# Altium footprint library Buzzer_Beeper.PcbLib: 22 footprints (part 2 of 2)
Each footprint in its own frame and in the unit in brackets; x right, y up, seen from the top. Pads: shape width x height; smd on the part's side, far side on the other; paste and mask are expansions set on the pad; w line width, h text height; cw(c..) or ccw(c..) is an arc to the next point about the centre after c.
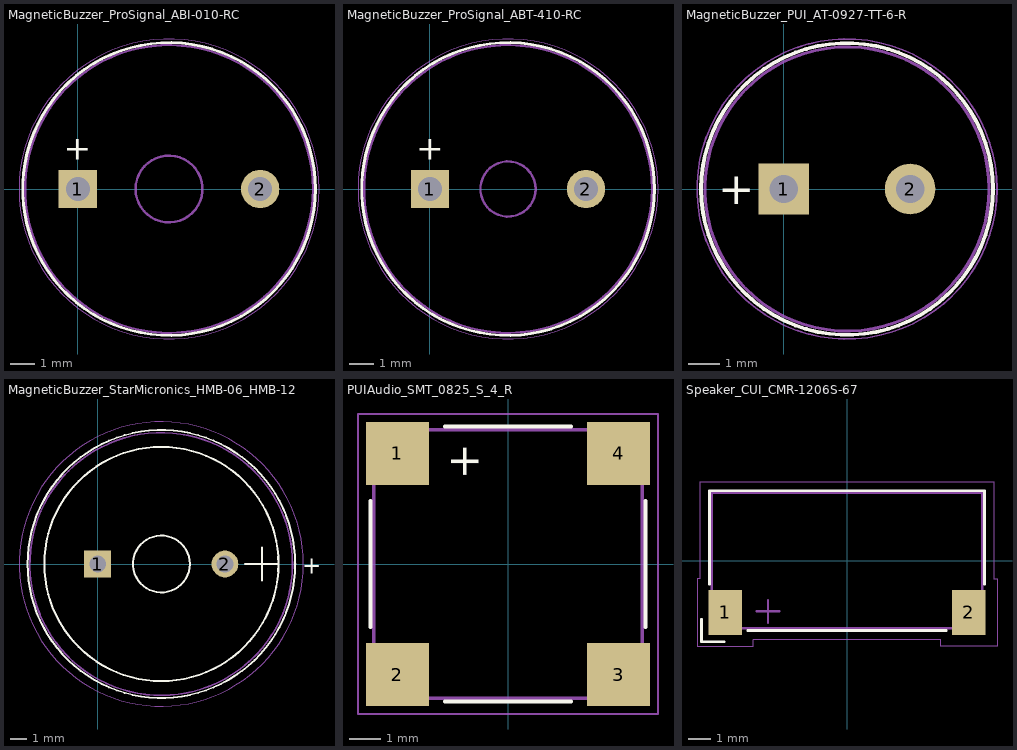
[diagram p1: the footprints below, top view; thin cyan lines are the x and y axes]

## MagneticBuzzer_ProSignal_ABI-010-RC [mm]
pads (2):
  rect 1.6x1.6 hole 1: 1(0,0)
  round 1.6 hole 1: 2(7.6,0)
F.SilkS:
  circle w0.12: c3.8,0 r6.1
  text "+" at -0.578,1.222 h1
F.CrtYd:
  circle w0.05: c3.8,0 r6.25
F.Fab:
  circle w0.1: c3.8,0 r1.393
  circle w0.1: c3.8,0 r6
  text "+" at -0.578,1.222 h1
  text "'.Designator'" at -0.247,6.16 h1

## MagneticBuzzer_ProSignal_ABT-410-RC [mm]
pads (2):
  rect 1.6x1.6 hole 1: 1(0,0)
  round 1.6 hole 1: 2(6.5,0)
F.SilkS:
  circle w0.12: c3.25,0 r6.1
  text "+" at -0.578,1.222 h1
F.CrtYd:
  circle w0.05: c3.25,0 r6.25
F.Fab:
  circle w0.1: c3.25,0 r1.15
  circle w0.1: c3.25,0 r6
  text "+" at -0.578,1.222 h1
  text "'.Designator'" at -0.797,6.16 h1

## MagneticBuzzer_PUI_AT-0927-TT-6-R [mm]
pads (2):
  rect 1.6x1.6 hole 0.9: 1(0,0)
  round 1.6 hole 0.9: 2(4,0)
F.SilkS:
  circle w0.12: c2,0 r4.62
  text "+" at -2.078,-0.478 h1
F.CrtYd:
  circle w0.05: c2,0 r4.75
F.Fab:
  circle w0.1: c2,0 r4.5
  text "+" at -2.078,-0.478 h1
  text "'.Designator'" at -2.047,-2.84 h1

## MagneticBuzzer_StarMicronics_HMB-06_HMB-12 [mil]
pads (2):
  rect 63x63 hole 39.4: 1(0,0)
  round 63 hole 39.4: 2(299.61,0)
F.SilkS:
  circle w4.72: c150,0 r315
  circle w4.72: c150,0 r275.6
  circle w4.72: c150,0 r66.9
  lines w4.72: 346.9,0 425.6,0 ; 386.2,-39.4 386.2,39.4
  text "+" at 481.53,-22.77 h39.37
F.CrtYd:
  circle w1.97: c149.61,0 r334.65
F.Fab:
  circle w3.94: c149.61,0 r309.12
  text "'.Designator'" at -1.84,85.03 h39.37

## PUIAudio_SMT_0825_S_4_R [mm]
pads (4):
  rect 2x2 smd: 1(-3.5,3.5) 2(-3.5,-3.5) 3(3.5,-3.5) 4(3.5,3.5)
F.SilkS:
  lines w0.12: -4.35,-2 -4.35,2 ; -2,-4.35 2,-4.35 ; -2,4.35 2,4.35 ; 4.35,-2 4.35,2
  text "+" at -0.922,2.672 h1
F.CrtYd:
  lines w0.05: -4.75,-4.75 4.75,-4.75 4.75,4.75 -4.75,4.75 -4.75,-4.75
F.Fab:
  lines w0.1: -4.25,-2.75 -4.25,2.75 -2.75,4.25 2.75,4.25 4.25,2.75 4.25,-2.75 2.75,-4.25 -2.75,-4.25 -4.25,-2.75
  text "'.Designator'" at -3.947,-0.94 h1
  text "+" at -2.172,2.172 h1

## Speaker_CUI_CMR-1206S-67 [mm]
pads (2):
  rect 1.5x2 smd: 1(-5.4,-2.3) 2(5.4,-2.3)
F.SilkS:
  lines w0.12: -6.45,-2.6 -6.45,-3.6 -5.45,-3.6 ; -6.1,-1.05 -6.1,3.1 6.1,3.1 6.1,-1.05 ; -4.4,-3.1 4.4,-3.1
F.CrtYd:
  lines w0.05: -6.65,-3.8 -4.15,-3.8 -4.15,-3.5 4.15,-3.5 4.15,-3.8 6.65,-3.8 6.65,-0.8 6.5,-0.8 6.5,3.5 -6.5,3.5 -6.5,-0.8 -6.65,-0.8 -6.65,-3.8
F.Fab:
  lines w0.1: -4,-2.25 -3,-2.25 ; -3.5,-2.75 -3.5,-1.75 ; -6,-3 -6,3 6,3 6,-3 -6,-3
  text "'.Designator'" at -4.047,-0.84 h1